# Altium schematic symbol library Schlib1.SchLib: 13 symbols
Pins are listed as number, name and electrical type; pins without a type are passive.

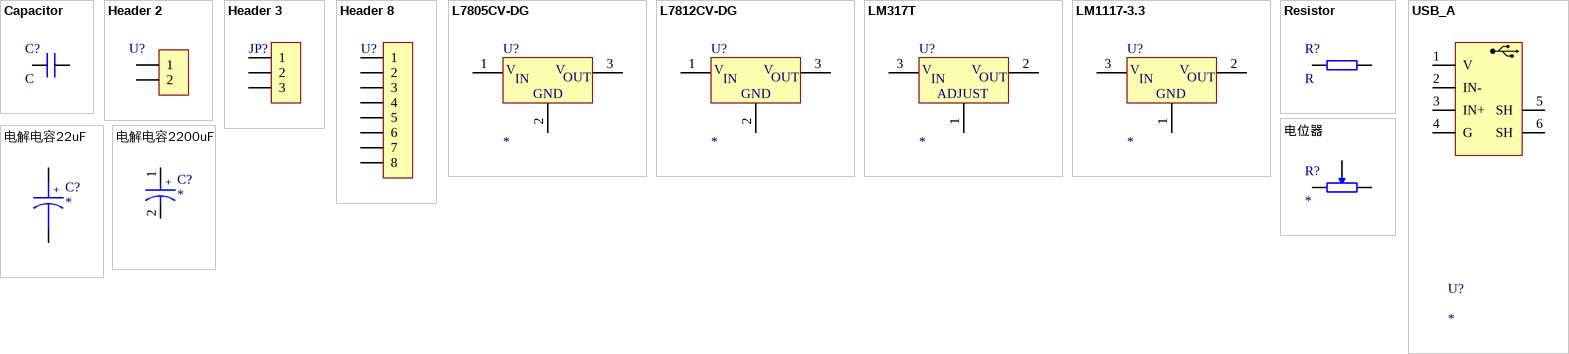
[diagram p0: symbols Capacitor to 电解电容2200uF]

## Capacitor
designator C?, comment C
电容; BOM名称: 无极性贴片电容; 版权归属: 源创客; 学习资源: www.ooocke.com
footprint 贴片电容1206
pins: 1, 2

## Header 2
designator U?, comment HDR-1X2  (value not drawn)
2P接插件; 版权归属: 源创客; BOM名称: 2P接插件; 学习资源: www.ooocke.com
footprint KF128-3.81-2P (螺钉式接线端子，脚距3.81mm)
pins: 1, 2

## Header 3
designator JP?, comment HDR-1X3  (value not drawn)
3P接插件; 版权归属: 源创客; BOM名称: 3P接插件; 学习资源: www.ooocke.com
footprint KF2510 (接插件)
pins: 1, 2, 3

## Header 8
designator U?, comment HDR-1X8  (value not drawn)
8P接插件; 版权归属: 源创客; BOM名称: 8P接插件; 学习资源: www.ooocke.com
footprint HDR-1X8 (排针，8脚)
pins: 1, 2, 3, 4, 5, 6, 7, 8

## L7805CV-DG
designator U?
3-Terminal Positive Voltage Regulator
footprint TO-220
pins: 1 VIN, 2 GND, 3 VOUT
text: V; IN; OUT

## L7812CV-DG
designator U?
3-Terminal Positive Voltage Regulator
footprint TO-220
pins: 1 VIN, 2 GND, 3 VOUT
text: V; IN; OUT

## LM317T
designator U?
3-Terminal Positive Voltage Regulator
footprint TO-220
pins: 1 GND, 2 VOUT, 3 VIN
text: V; IN; OUT; ADJUST

## LM1117-3.3
designator U?
3-Terminal Positive Voltage Regulator
footprint TO-220
pins: 1 GND, 2 VOUT, 3 VIN
text: V; IN; OUT

## Resistor
designator R?, comment R
电阻; BOM名称: 贴片电阻; 版权归属: 源创客; 学习资源: www.ooocke.com
footprint 贴片电阻1206
pins: 1, 2

## USB_A
designator U?
footprint USB-A直插 (90度)
pins: 1 V, 2 IN-, 3 IN+, 4 G, 5 SH, 6 SH

## 电位器
designator R?
103; BOM名称: 贴片电阻; 版权归属: 源创客; 学习资源: www.ooocke.com
footprint 电位器 (3296W)
pins: 1, 2, 3

## 电解电容22uF
designator C?
footprint 直插电解电容5*11 (5*11MM)
pins: 1, 2
text: +

## 电解电容2200uF
designator C?
footprint 直插电解电容13*21 (13*21mm)
pins: 1, 2
text: +